# Altium schematic symbol library MCULib.SchLib: 2 symbols
Pins are listed as number, name and electrical type; pins without a type are passive.

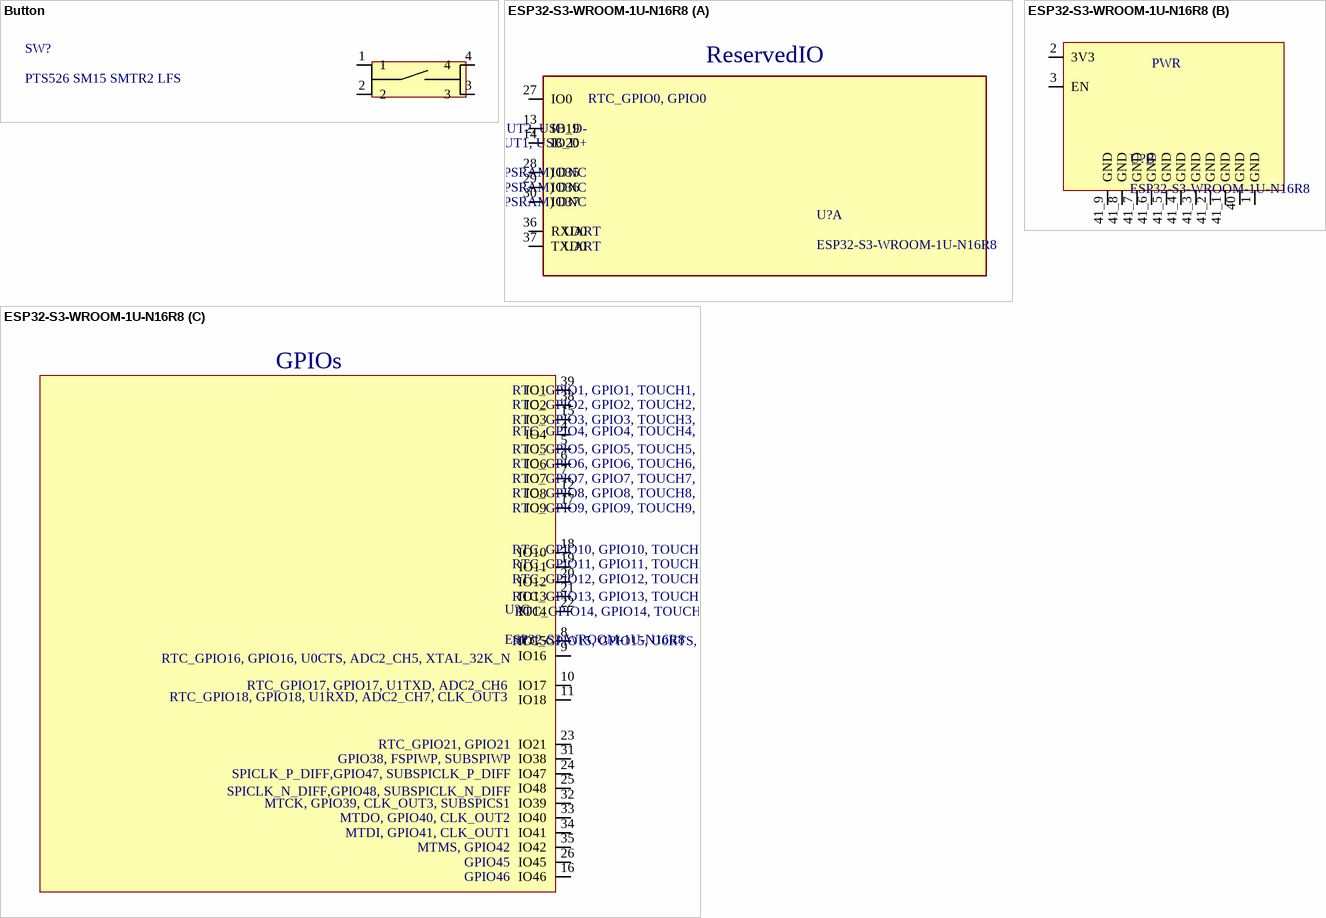
[diagram p0: symbols Button to ESP32-S3-WROOM-1U-N16R8]

## Button
designator SW?, comment PTS526 SM15 SMTR2 LFS
NO button; Manufacturer: C&K Components; Manufacturer_Part_Number: PTS526 SM15 SMTR2 LFS
footprint SON4_PTS526 SM15 SMTR2 LFS_CNK
footprint PTS526SK15SMTR2LFS
pins: 1, 2, 3, 4

## ESP32-S3-WROOM-1U-N16R8
designator U?
Bluetooth, WiFi 802.11b/g/n, Bluetooth v5.0 Transceiver Module 2.4GHz Antenna Not Included, U.FL Surface Mount; MF: Espressif Systems; Package: None; Price: None; Value: *; SnapEDA_Link: https://www.snapeda.com/parts/ESP32-S3-WROOM-1U-N16R8/Espressif+Systems/view-part/?ref=snap; MP: ESP32-S3-WROOM-1U-N16R8; Availability: Unavailable; Check_prices: https://www.snapeda.com/parts/ESP32-S3-WROOM-1U-N16R8/Espressif+Systems/view-part/?ref=eda
footprint XCVR_ESP32-S3-WROOM-1U-N16R8
part A pins: 13 IO19, 14 IO20, 27 IO0, 28 IO35, 29 IO36, 30 IO37, 36 RXD0, 37 TXD0
part B pins: 1 GND (power), 2 3V3 (power), 3 EN, 40 GND (power), 41_1 GND (power), 41_2 GND (power), 41_3 GND (power), 41_4 GND (power), 41_5 GND (power), 41_6 GND (power), 41_7 GND (power), 41_8 GND (power), 41_9 GND (power)
part C pins: 4 IO4, 5 IO5, 6 IO6, 7 IO7, 8 IO15, 9 IO16, 10 IO17, 11 IO18, 12 IO8, 15 IO3, 16 IO46, 17 IO9, 18 IO10, 19 IO11, 20 IO12, 21 IO13, 22 IO14, 23 IO21, 24 IO47, 25 IO48, 26 IO45, 31 IO38, 32 IO39, 33 IO40, 34 IO41, 35 IO42, 38 IO2, 39 IO1
part A text: ReservedIO; RTC_GPIO0, GPIO0; RTC_GPIO19, GPIO19, U1RTS, ADC2_CH8, CLK_OUT2, USB_D-; RTC_GPIO20, GPIO20, U1CTS, ADC2_CH9, CLK_OUT1, USB_D+; GPIO35 (PSRAM) DNC; GPIO36 (PSRAM) DNC; GPIO37 (PSRAM) DNC; UART
part B text: PWR
part C text: GPIOs; RTC_GPIO1, GPIO1, TOUCH1, ADC1_CH0; RTC_GPIO2, GPIO2, TOUCH2, ADC1_CH1; RTC_GPIO3, GPIO3, TOUCH3, ADC1_CH2; RTC_GPIO4, GPIO4, TOUCH4, ADC1_CH3; RTC_GPIO5, GPIO5, TOUCH5, ADC1_CH4; RTC_GPIO6, GPIO6, TOUCH6, ADC1_CH5; RTC_GPIO7, GPIO7, TOUCH7, ADC1_CH6; RTC_GPIO8, GPIO8, TOUCH8, ADC1_CH7, SUBSPICS1; RTC_GPIO9, GPIO9, TOUCH9, ADC1_CH8, FSPIHD, SUBSPIHD; RTC_GPIO10, GPIO10, TOUCH10, ADC1_CH9, FSPICS0, FSPIIO4,SUBSPICS0; RTC_GPIO11, GPIO11, TOUCH11, ADC2_CH0, FSPID, FSPIIO5, SUBSPID; RTC_GPIO12, GPIO12, TOUCH12, ADC2_CH1, FSPICLK, FSPIIO6,; RTC_GPIO13, GPIO13, TOUCH13, ADC2_CH2, FSPIQ, FSPIIO7, SUBSPIQ; RTC_GPIO14, GPIO14, TOUCH14, ADC2_CH3, FSPIWP, FSPIDQS,; RTC_GPIO15, GPIO15, U0RTS, ADC2_CH4, XTAL_32K_P; RTC_GPIO16, GPIO16, U0CTS, ADC2_CH5, XTAL_32K_N; RTC_GPIO17, GPIO17, U1TXD, ADC2_CH6; RTC_GPIO18, GPIO18, U1RXD, ADC2_CH7, CLK_OUT3; RTC_GPIO21, GPIO21; GPIO38, FSPIWP, SUBSPIWP; SPICLK_P_DIFF,GPIO47, SUBSPICLK_P_DIFF; SPICLK_N_DIFF,GPIO48, SUBSPICLK_N_DIFF; MTCK, GPIO39, CLK_OUT3, SUBSPICS1; MTDO, GPIO40, CLK_OUT2; MTDI, GPIO41, CLK_OUT1; MTMS, GPIO42; GPIO45; GPIO46